# EAGLE library part AD22151YR (library ANIMAlib)
AD22151YR The AD22151 is a linear magnetic field transducer. The sensor output is a voltage proportional to a magnetic field applied perpendicularly to the package top surface.
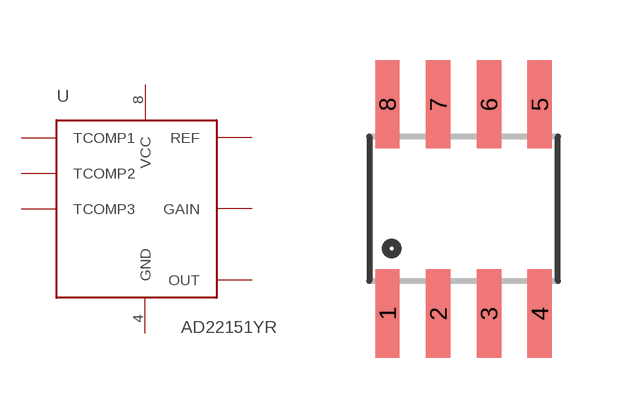
[diagram p10: symbol with the pads of SO08; footprint SO08]

Designator prefix U

## AD22151YR  [SO08]
1  TCOMP1
2  TCOMP2
3  TCOMP3
4  GND  pwr
5  OUT
6  GAIN
7  REF
8  VCC  pwr

## Footprint SO08 (pad centres in mm)
Small Outline Package Fits JEDEC packages (narrow SOIC-8)
smd 0.61 x 2.21: 1 -1.905,-2.616; 2 -0.635,-2.616; 3 0.635,-2.616; 4 1.905,-2.616; 5 1.905,2.616; 6 0.635,2.616; 7 -0.635,2.616; 8 -1.905,2.616